# Altium integrated library My_Library_Current_Sense_Amplifiers.IntLib: 1 symbol
Pins are listed as number, name and electrical type; pins without a type are passive.

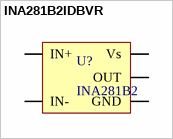
[diagram p0: symbol INA281B2IDBVR]

## INA281B2IDBVR
designator U?, comment INA281B2
Gain: 50V/V; ComponentLink1Description: New link; ComponentLink1URL: https://www.digikey.com/en/products/detail/texas-instruments/INA281B2IDBVR/13238583
footprint SOT-23(INA281)_H
footprint SOT-23(INA281)_L
footprint SOT-23(INA281)_M
pins: 1 OUT, 2 GND, 3 Vs, 4 IN+, 5 IN-